# EAGLE library part PIC24FJ256GB210-I/PT (library SSv3_1)
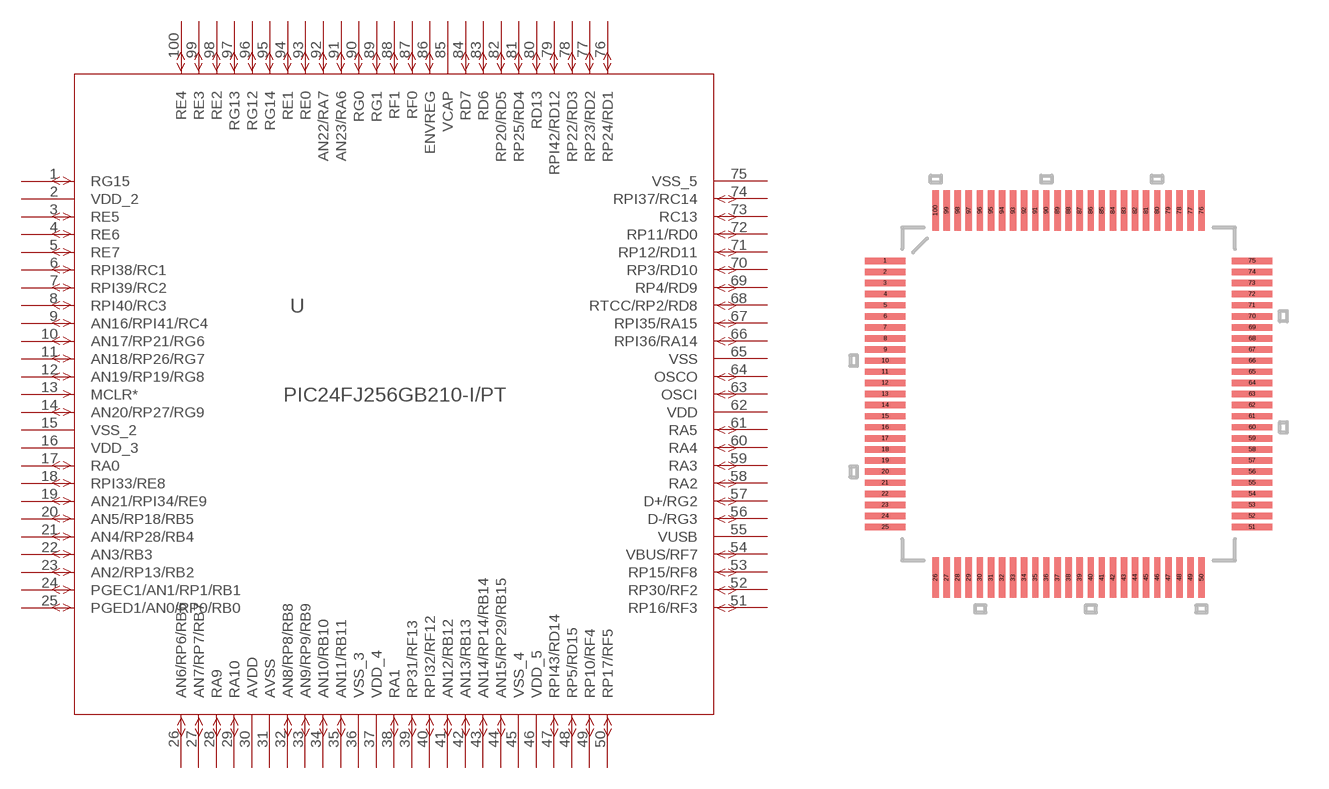
[diagram p14: symbol with the pads of TQFP100_12X12MC; footprint TQFP100_12X12MC]

Designator prefix -

## PIC24FJ256GB210-I/PT  [TQFP100_12X12MC]
1  RG15
2  VDD_2  pwr
3  RE5
4  RE6
5  RE7
6  RPI38/RC1
7  RPI39/RC2
8  RPI40/RC3
9  AN16/RPI41/RC4
10  AN17/RP21/RG6
11  AN18/RP26/RG7
12  AN19/RP19/RG8
13  MCLR*  in
14  AN20/RP27/RG9
15  VSS_2  pwr
16  VDD_3  pwr
17  RA0
18  RPI33/RE8
19  AN21/RPI34/RE9
20  AN5/RP18/RB5
21  AN4/RP28/RB4
22  AN3/RB3
23  AN2/RP13/RB2
24  PGEC1/AN1/RP1/RB1
25  PGED1/AN0/RP0/RB0
26  AN6/RP6/RB6
27  AN7/RP7/RB7
28  RA9
29  RA10
30  AVDD  pwr
31  AVSS  pwr
32  AN8/RP8/RB8
33  AN9/RP9/RB9
34  AN10/RB10
35  AN11/RB11
36  VSS_3  pwr
37  VDD_4  pwr
38  RA1
39  RP31/RF13
40  RPI32/RF12
41  AN12/RB12
42  AN13/RB13
43  AN14/RP14/RB14
44  AN15/RP29/RB15
45  VSS_4  pwr
46  VDD_5  pwr
47  RPI43/RD14
48  RP5/RD15
49  RP10/RF4
50  RP17/RF5
51  RP16/RF3
52  RP30/RF2
53  RP15/RF8
54  VBUS/RF7
55  VUSB  pwr
56  D-/RG3
57  D+/RG2
58  RA2
59  RA3
60  RA4
61  RA5
62  VDD  pwr
63  OSCI
64  OSCO
65  VSS  pwr
66  RPI36/RA14
67  RPI35/RA15
68  RTCC/RP2/RD8
69  RP4/RD9
70  RP3/RD10
71  RP12/RD11
72  RP11/RD0
73  RC13
74  RPI37/RC14
75  VSS_5  pwr
76  RP24/RD1
77  RP23/RD2
78  RP22/RD3
79  RPI42/RD12
80  RD13
81  RP25/RD4
82  RP20/RD5
83  RD6
84  RD7
85  VCAP  pwr
86  ENVREG
87  RF0
88  RF1
89  RG1
90  RG0
91  AN23/RA6
92  AN22/RA7
93  RE0
94  RE1
95  RG14
96  RG12
97  RG13
98  RE2
99  RE3
100  RE4

## Footprint TQFP100_12X12MC (pad centres in mm)
smd 1.473 x 0.229: 1 -6.617,4.8; 2 -6.617,4.4; 3 -6.617,4; 4 -6.617,3.6; 5 -6.617,3.2; 6 -6.617,2.8; 7 -6.617,2.4; 8 -6.617,2; 9 -6.617,1.6; 10 -6.617,1.2; 11 -6.617,0.8; 12 -6.617,0.4; 13 -6.617,0; 14 -6.617,-0.4; 15 -6.617,-0.8; 16 -6.617,-1.2; 17 -6.617,-1.6; 18 -6.617,-2; 19 -6.617,-2.4; 20 -6.617,-2.8; 21 -6.617,-3.2; 22 -6.617,-3.6; 23 -6.617,-4; 24 -6.617,-4.4; 25 -6.617,-4.8; 51 6.617,-4.8; 52 6.617,-4.4; 53 6.617,-4; 54 6.617,-3.6; 55 6.617,-3.2; 56 6.617,-2.8; 57 6.617,-2.4; 58 6.617,-2; 59 6.617,-1.6; 60 6.617,-1.2; 61 6.617,-0.8; 62 6.617,-0.4; 63 6.617,0; 64 6.617,0.4; 65 6.617,0.8; 66 6.617,1.2; 67 6.617,1.6; 68 6.617,2; 69 6.617,2.4; 70 6.617,2.8; 71 6.617,3.2; 72 6.617,3.6; 73 6.617,4; 74 6.617,4.4; 75 6.617,4.8
smd 0.229 x 1.473: 26 -4.8,-6.617; 27 -4.4,-6.617; 28 -4,-6.617; 29 -3.6,-6.617; 30 -3.2,-6.617; 31 -2.8,-6.617; 32 -2.4,-6.617; 33 -2,-6.617; 34 -1.6,-6.617; 35 -1.2,-6.617; 36 -0.8,-6.617; 37 -0.4,-6.617; 38 0,-6.617; 39 0.4,-6.617; 40 0.8,-6.617; 41 1.2,-6.617; 42 1.6,-6.617; 43 2,-6.617; 44 2.4,-6.617; 45 2.8,-6.617; 46 3.2,-6.617; 47 3.6,-6.617; 48 4,-6.617; 49 4.4,-6.617; 50 4.8,-6.617; 76 4.8,6.617; 77 4.4,6.617; 78 4,6.617; 79 3.6,6.617; 80 3.2,6.617; 81 2.8,6.617; 82 2.4,6.617; 83 2,6.617; 84 1.6,6.617; 85 1.2,6.617; 86 0.8,6.617; 87 0.4,6.617; 88 0,6.617; 89 -0.4,6.617; 90 -0.8,6.617; 91 -1.2,6.617; 92 -1.6,6.617; 93 -2,6.617; 94 -2.4,6.617; 95 -2.8,6.617; 96 -3.2,6.617; 97 -3.6,6.617; 98 -4,6.617; 99 -4.4,6.617; 100 -4.8,6.617